# Altium footprint library QFP.PcbLib: 7 footprints
Each footprint in its own frame and in the unit in brackets; x right, y up, seen from the top. Pads: shape width x height; smd on the part's side, far side on the other; paste and mask are expansions set on the pad; w line width, h text height; cw(c..) or ccw(c..) is an arc to the next point about the centre after c.
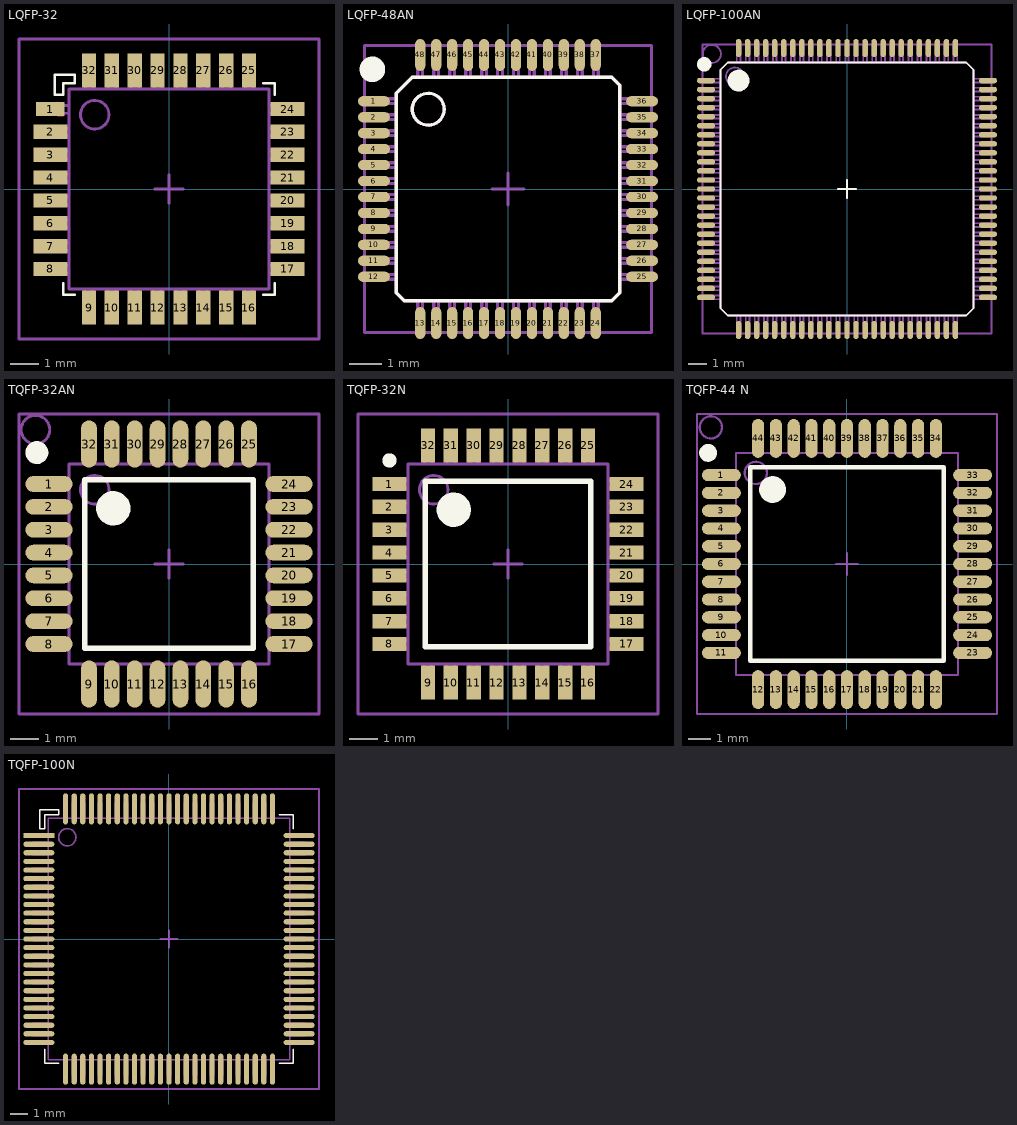
[diagram p0: the footprints below, top view; thin cyan lines are the x and y axes]

## LQFP-32 [mm] "LQFP, 32-Leads, Body 7,00x7,00mm, Pitch 0,80mm, IPC Medium Density"
height 1.6
pads (32):
  rect 1x0.5 smd: 1(-4.15,2.8)
  rect 1.2x0.5 smd: 2(-4.15,2) 3(-4.15,1.2) 4(-4.15,0.4) 5(-4.15,-0.4) 6(-4.15,-1.2) 7(-4.15,-2) 8(-4.15,-2.8) 17(4.15,-2.8) 18(4.15,-2) 19(4.15,-1.2) 20(4.15,-0.4) 21(4.15,0.4) 22(4.15,1.2) 23(4.15,2) 24(4.15,2.8)
  rect 0.5x1.2 smd: 9(-2.8,-4.15) 10(-2,-4.15) 11(-1.2,-4.15) 12(-0.4,-4.15) 13(0.4,-4.15) 14(1.2,-4.15) 15(2,-4.15) 16(2.8,-4.15) 25(2.8,4.15) 26(2,4.15) 27(1.2,4.15) 28(0.4,4.15) 29(-0.4,4.15) 30(-1.2,4.15) 31(-2,4.15) 32(-2.8,4.15)
Top Layer:
  region: -3.9,2.55 -3.7,2.55 -3.7,2.85 -3.9,3.05
Top Overlay:
  lines w0.1: -3.7,-3.3 -3.7,-3.7 -3.3,-3.7 ; 3.3,-3.7 3.7,-3.7 3.7,-3.3 ; 3.3,3.7 3.7,3.7 3.7,3.3 ; -4,3.3 -4,4 -3.3,4 -3.3,3.7 -3.7,3.7 -3.7,3.3 -4,3.3
Top Package:
  circle w0.1: c-2.6,2.6 r0.5
  lines w0.1: -3.55,-2.95 -4.3,-2.95 -4.3,-2.675 -3.55,-2.675 ; -3.55,-2.15 -4.3,-2.15 -4.3,-1.875 -3.55,-1.875 ; -3.55,-1.35 -4.3,-1.35 -4.3,-1.075 -3.55,-1.075 ; -3.55,-0.55 -4.3,-0.55 -4.3,-0.275 -3.55,-0.275 ; -3.55,0.25 -4.3,0.25 -4.3,0.525 -3.55,0.525 ; -3.55,1.05 -4.3,1.05 -4.3,1.325 -3.55,1.325 ; -3.55,1.85 -4.3,1.85 -4.3,2.125 -3.55,2.125 ; -3.55,2.65 -4.3,2.65 -4.3,2.925 -3.55,2.925 ; -2.95,-3.55 -2.95,-4.3 -2.675,-4.3 -2.675,-3.55 ; -2.925,3.55 -2.925,4.3 -2.65,4.3 -2.65,3.55 ; -2.15,-3.55 -2.15,-4.3 -1.875,-4.3 -1.875,-3.55 ; -2.125,3.55 -2.125,4.3 -1.85,4.3 -1.85,3.55 ; -1.35,-3.55 -1.35,-4.3 -1.075,-4.3 -1.075,-3.55 ; -1.325,3.55 -1.325,4.3 -1.05,4.3 -1.05,3.55 ; -0.55,-3.55 -0.55,-4.3 -0.275,-4.3 -0.275,-3.55 ; -0.525,3.55 -0.525,4.3 -0.25,4.3 -0.25,3.55 ; 0.25,-3.55 0.25,-4.3 0.525,-4.3 0.525,-3.55 ; 0.275,3.55 0.275,4.3 0.55,4.3 0.55,3.55 ; 1.05,-3.55 1.05,-4.3 1.325,-4.3 1.325,-3.55 ; 1.075,3.55 1.075,4.3 1.35,4.3 1.35,3.55 ; 1.85,-3.55 1.85,-4.3 2.125,-4.3 2.125,-3.55 ; 1.875,3.55 1.875,4.3 2.15,4.3 2.15,3.55 ; 2.65,-3.55 2.65,-4.3 2.925,-4.3 2.925,-3.55 ; 2.675,3.55 2.675,4.3 2.95,4.3 2.95,3.55 ; 3.55,-2.95 4.3,-2.95 4.3,-2.675 3.55,-2.675 ; 3.55,-2.15 4.3,-2.15 4.3,-1.875 3.55,-1.875 ; 3.55,-1.35 4.3,-1.35 4.3,-1.075 3.55,-1.075 ; 3.55,-0.55 4.3,-0.55 4.3,-0.275 3.55,-0.275 ; 3.55,0.25 4.3,0.25 4.3,0.525 3.55,0.525 ; 3.55,1.05 4.3,1.05 4.3,1.325 3.55,1.325 ; 3.55,1.85 4.3,1.85 4.3,2.125 3.55,2.125 ; 3.55,2.65 4.3,2.65 4.3,2.925 3.55,2.925 ; -3.5,-3.5 3.5,-3.5 3.5,3.5 -3.5,3.5 -3.5,-3.5
Top Border:
  lines w0.1: -0.5,0 0.5,0 ; 0,-0.5 0,0.5 ; -5.25,-5.25 -5.25,5.25 5.25,5.25 5.25,-5.25 -5.25,-5.25
3D body "LQFP-32.STEP": height 1.62, standoff -0.01, extent -4.572,-4.572 4.572,4.572

## LQFP-48AN [mm]
height 1.4
pads (48):
  oval 1x0.32 smd: 1(-4.2,2.75) 2(-4.2,2.25) 3(-4.2,1.75) 4(-4.2,1.25) 5(-4.2,0.75) 6(-4.2,0.25) 7(-4.2,-0.25) 8(-4.2,-0.75) 9(-4.2,-1.25) 10(-4.2,-1.75) 11(-4.2,-2.25) 12(-4.2,-2.75) 25(4.2,-2.75) 26(4.2,-2.25) 27(4.2,-1.75) 28(4.2,-1.25) 29(4.2,-0.75) 30(4.2,-0.25) 31(4.2,0.25) 32(4.2,0.75) 33(4.2,1.25) 34(4.2,1.75) 35(4.2,2.25) 36(4.2,2.75)
  oval 0.32x1 smd: 13(-2.75,-4.2) 14(-2.25,-4.2) 15(-1.75,-4.2) 16(-1.25,-4.2) 17(-0.75,-4.2) 18(-0.25,-4.2) 19(0.25,-4.2) 20(0.75,-4.2) 21(1.25,-4.2) 22(1.75,-4.2) 23(2.25,-4.2) 24(2.75,-4.2) 37(2.75,4.2) 38(2.25,4.2) 39(1.75,4.2) 40(1.25,4.2) 41(0.75,4.2) 42(0.25,4.2) 43(-0.25,4.2) 44(-0.75,4.2) 45(-1.25,4.2) 46(-1.75,4.2) 47(-2.25,4.2) 48(-2.75,4.2)
Top Overlay:
  circle w0.1: c-2.5,2.5 r0.5
  circle w0.4: c-4.25,3.75 r0.2
  lines w0.1: -3.5,-3.25 -3.25,-3.5 3.25,-3.5 3.5,-3.25 3.5,3.25 3.25,3.5 -3,3.5 -3.5,3 -3.5,-3.25
Top Package:
  drawing of 154 lines, arcs and shapes, not listed
Top Border:
  lines w0.1: -0.5,0 0.5,0 ; 0,-0.5 0,0.5 ; -4.5,-4.5 4.5,-4.5 4.5,4.5 -4.5,4.5 -4.5,-4.5
3D body "Ethernet Transceiver KSZ8051MLLI LQFP.step": height 1.55, standoff -0.02, extent -4.386,-4.386 4.386,4.386

## LQFP-100AN [mm]
height 1.27
pads (100):
  oval 1x0.3 smd: 1(-7.8,6) 2(-7.8,5.5) 3(-7.8,5) 4(-7.8,4.5) 5(-7.8,4) 6(-7.8,3.5) 7(-7.8,3) 8(-7.8,2.5) 9(-7.8,2) 10(-7.8,1.5) 11(-7.8,1) 12(-7.8,0.5) 13(-7.8,0) 14(-7.8,-0.5) 15(-7.8,-1) 16(-7.8,-1.5) 17(-7.8,-2) 18(-7.8,-2.5) 19(-7.8,-3) 20(-7.8,-3.5) 21(-7.8,-4) 22(-7.8,-4.5) 23(-7.8,-5) 24(-7.8,-5.5) 25(-7.8,-6) 51(7.8,-6) 52(7.8,-5.5) 53(7.8,-5) 54(7.8,-4.5) 55(7.8,-4) 56(7.8,-3.5) 57(7.8,-3) 58(7.8,-2.5) 59(7.8,-2) 60(7.8,-1.5) 61(7.8,-1) 62(7.8,-0.5) 63(7.8,0) 64(7.8,0.5) 65(7.8,1) 66(7.8,1.5) 67(7.8,2) 68(7.8,2.5) 69(7.8,3) 70(7.8,3.5) 71(7.8,4) 72(7.8,4.5) 73(7.8,5) 74(7.8,5.5) 75(7.8,6)
  oval 0.3x1 smd: 26(-6,-7.8) 27(-5.5,-7.8) 28(-5,-7.8) 29(-4.5,-7.8) 30(-4,-7.8) 31(-3.5,-7.8) 32(-3,-7.8) 33(-2.5,-7.8) 34(-2,-7.8) 35(-1.5,-7.8) 36(-1,-7.8) 37(-0.5,-7.8) 38(0,-7.8) 39(0.5,-7.8) 40(1,-7.8) 41(1.5,-7.8) 42(2,-7.8) 43(2.5,-7.8) 44(3,-7.8) 45(3.5,-7.8) 46(4,-7.8) 47(4.5,-7.8) 48(5,-7.8) 49(5.5,-7.8) 50(6,-7.8) 76(6,7.8) 77(5.5,7.8) 78(5,7.8) 79(4.5,7.8) 80(4,7.8) 81(3.5,7.8) 82(3,7.8) 83(2.5,7.8) 84(2,7.8) 85(1.5,7.8) 86(1,7.8) 87(0.5,7.8) 88(0,7.8) 89(-0.5,7.8) 90(-1,7.8) 91(-1.5,7.8) 92(-2,7.8) 93(-2.5,7.8) 94(-3,7.8) 95(-3.5,7.8) 96(-4,7.8) 97(-4.5,7.8) 98(-5,7.8) 99(-5.5,7.8) 100(-6,7.8)
Top Overlay:
  circle w0.6: c-6,6 r0.3
  circle w0.4: c-7.9,6.9 r0.2
  lines w0.1: -0.5,0 0.5,0 ; 0,-0.5 0,0.5 ; -7,-6.6 -7,6.6 -6.6,7 6.6,7 7,6.6 7,-6.6 6.6,-7 -6.6,-7 -7,-6.6
Top Package:
  drawing of 309 lines, arcs and shapes, not listed
Top Border:
  circle w0.1: c-7.475,7.475 r0.5
  lines w0.1: -0.5,0 0.5,0 ; 0,-0.5 0,0.5 ; -8,-8 8,-8 8,8 -8,8 -8,-8
3D body "User Library-lqfp100-1.step": height 1.5, standoff 0.02, extent -8,-8 8,8

## TQFP-32AN [mm] "Thin QFP, 32-Leads, Body 7x7mm, Pitch 0.8mm, IPC Medium Density"
height 1.2
pads (32):
  oval 1.65x0.55 smd: 1(-4.2,2.8) 2(-4.2,2) 3(-4.2,1.2) 4(-4.2,0.4) 5(-4.2,-0.4) 6(-4.2,-1.2) 7(-4.2,-2) 8(-4.2,-2.8) 17(4.2,-2.8) 18(4.2,-2) 19(4.2,-1.2) 20(4.2,-0.4) 21(4.2,0.4) 22(4.2,1.2) 23(4.2,2) 24(4.2,2.8)
  oval 0.55x1.65 smd: 9(-2.8,-4.2) 10(-2,-4.2) 11(-1.2,-4.2) 12(-0.4,-4.2) 13(0.4,-4.2) 14(1.2,-4.2) 15(2,-4.2) 16(2.8,-4.2) 25(2.8,4.2) 26(2,4.2) 27(1.2,4.2) 28(0.4,4.2) 29(-0.4,4.2) 30(-1.2,4.2) 31(-2,4.2) 32(-2.8,4.2)
Top Overlay:
  circle w0.6: c-1.95,1.95 r0.3
  circle w0.4: c-4.625,3.9 r0.2
  lines w0.2: -2.95,-2.95 -2.95,2.95 2.95,2.95 2.95,-2.95 -2.95,-2.95
Top Package:
  circle w0.1: c-2.6,2.6 r0.5
  lines w0.1: -3.5,-3.5 3.5,-3.5 3.5,3.5 -3.5,3.5 -3.5,-3.5
Top Border:
  circle w0.1: c-4.675,4.7 r0.5
  lines w0.1: -0.5,0 0.5,0 ; 0,-0.5 0,0.5 ; -5.25,-5.25 5.25,-5.25 5.25,5.25 -5.25,5.25 -5.25,-5.25
3D body "MCU ATmega16M1.STEP": height 1.45, standoff -0.01, extent -4.5,-4.5 4.5,4.5

## TQFP-32N [mm] "TQFP, 32-Leads, Body 7,00x7,00mm, Pitch 0,80mm, IPC Medium Density"
height 1.6
pads (32):
  rect 1.2x0.5 smd: 1(-4.15,2.8) 2(-4.15,2) 3(-4.15,1.2) 4(-4.15,0.4) 5(-4.15,-0.4) 6(-4.15,-1.2) 7(-4.15,-2) 8(-4.15,-2.8) 17(4.15,-2.8) 18(4.15,-2) 19(4.15,-1.2) 20(4.15,-0.4) 21(4.15,0.4) 22(4.15,1.2) 23(4.15,2) 24(4.15,2.8)
  rect 0.5x1.2 smd: 9(-2.8,-4.15) 10(-2,-4.15) 11(-1.2,-4.15) 12(-0.4,-4.15) 13(0.4,-4.15) 14(1.2,-4.15) 15(2,-4.15) 16(2.8,-4.15) 25(2.8,4.15) 26(2,4.15) 27(1.2,4.15) 28(0.4,4.15) 29(-0.4,4.15) 30(-1.2,4.15) 31(-2,4.15) 32(-2.8,4.15)
Top Overlay:
  circle w0.6: c-1.9,1.9 r0.3
  circle w0.25: c-4.15,3.625 r0.125
  lines w0.2: -2.9,-2.9 2.9,-2.9 2.9,2.9 -2.9,2.9 -2.9,-2.9
Top Package:
  circle w0.1: c-2.6,2.6 r0.5
  lines w0.1: -3.55,-2.95 -4.3,-2.95 -4.3,-2.675 -3.55,-2.675 ; -3.55,-2.15 -4.3,-2.15 -4.3,-1.875 -3.55,-1.875 ; -3.55,-1.35 -4.3,-1.35 -4.3,-1.075 -3.55,-1.075 ; -3.55,-0.55 -4.3,-0.55 -4.3,-0.275 -3.55,-0.275 ; -3.55,0.25 -4.3,0.25 -4.3,0.525 -3.55,0.525 ; -3.55,1.05 -4.3,1.05 -4.3,1.325 -3.55,1.325 ; -3.55,1.85 -4.3,1.85 -4.3,2.125 -3.55,2.125 ; -3.55,2.65 -4.3,2.65 -4.3,2.925 -3.55,2.925 ; -2.95,-3.55 -2.95,-4.3 -2.675,-4.3 -2.675,-3.55 ; -2.925,3.55 -2.925,4.3 -2.65,4.3 -2.65,3.55 ; -2.15,-3.55 -2.15,-4.3 -1.875,-4.3 -1.875,-3.55 ; -2.125,3.55 -2.125,4.3 -1.85,4.3 -1.85,3.55 ; -1.35,-3.55 -1.35,-4.3 -1.075,-4.3 -1.075,-3.55 ; -1.325,3.55 -1.325,4.3 -1.05,4.3 -1.05,3.55 ; -0.55,-3.55 -0.55,-4.3 -0.275,-4.3 -0.275,-3.55 ; -0.525,3.55 -0.525,4.3 -0.25,4.3 -0.25,3.55 ; 0.25,-3.55 0.25,-4.3 0.525,-4.3 0.525,-3.55 ; 0.275,3.55 0.275,4.3 0.55,4.3 0.55,3.55 ; 1.05,-3.55 1.05,-4.3 1.325,-4.3 1.325,-3.55 ; 1.075,3.55 1.075,4.3 1.35,4.3 1.35,3.55 ; 1.85,-3.55 1.85,-4.3 2.125,-4.3 2.125,-3.55 ; 1.875,3.55 1.875,4.3 2.15,4.3 2.15,3.55 ; 2.65,-3.55 2.65,-4.3 2.925,-4.3 2.925,-3.55 ; 2.675,3.55 2.675,4.3 2.95,4.3 2.95,3.55 ; 3.55,-2.95 4.3,-2.95 4.3,-2.675 3.55,-2.675 ; 3.55,-2.15 4.3,-2.15 4.3,-1.875 3.55,-1.875 ; 3.55,-1.35 4.3,-1.35 4.3,-1.075 3.55,-1.075 ; 3.55,-0.55 4.3,-0.55 4.3,-0.275 3.55,-0.275 ; 3.55,0.25 4.3,0.25 4.3,0.525 3.55,0.525 ; 3.55,1.05 4.3,1.05 4.3,1.325 3.55,1.325 ; 3.55,1.85 4.3,1.85 4.3,2.125 3.55,2.125 ; 3.55,2.65 4.3,2.65 4.3,2.925 3.55,2.925 ; -3.5,-3.5 -3.5,3.5 3.5,3.5 3.5,-3.5 -3.5,-3.5
Top Border:
  lines w0.1: -0.5,0 0.5,0 ; 0,-0.5 0,0.5 ; -5.25,-5.25 -5.25,5.25 5.25,5.25 5.25,-5.25 -5.25,-5.25
3D body "LQFP-32.STEP": height 1.62, standoff -0.01, extent -4.572,-4.572 4.572,4.572

## TQFP-44 N [mm]
height 1.27
pads (44):
  oval 1.75x0.55 smd: 1(-5.65,4) 2(-5.65,3.2) 3(-5.65,2.4) 4(-5.65,1.6) 5(-5.65,0.8) 6(-5.65,0) 7(-5.65,-0.8) 8(-5.65,-1.6) 9(-5.65,-2.4) 10(-5.65,-3.2) 11(-5.65,-4) 23(5.65,-4) 24(5.65,-3.2) 25(5.65,-2.4) 26(5.65,-1.6) 27(5.65,-0.8) 28(5.65,0) 29(5.65,0.8) 30(5.65,1.6) 31(5.65,2.4) 32(5.65,3.2) 33(5.65,4)
  oval 0.55x1.75 smd: 12(-4,-5.65) 13(-3.2,-5.65) 14(-2.4,-5.65) 15(-1.6,-5.65) 16(-0.8,-5.65) 17(0,-5.65) 18(0.8,-5.65) 19(1.6,-5.65) 20(2.4,-5.65) 21(3.2,-5.65) 22(4,-5.65) 34(4,5.65) 35(3.2,5.65) 36(2.4,5.65) 37(1.6,5.65) 38(0.8,5.65) 39(0,5.65) 40(-0.8,5.65) 41(-1.6,5.65) 42(-2.4,5.65) 43(-3.2,5.65) 44(-4,5.65)
Top Overlay:
  circle w0.6: c-3.35,3.35 r0.3
  circle w0.4: c-6.25,5 r0.2
  lines w0.2: -4.35,-4.35 4.35,-4.35 4.35,4.35 -4.35,4.35 -4.35,-4.35
Top Package:
  circle w0.1: c-4.1,4.1 r0.5
  lines w0.1: -5,-5 -5,5 5,5 5,-5 -5,-5
Top Border:
  circle w0.1: c-6.125,6.15 r0.5
  lines w0.1: -0.5,0 0.5,0 ; 0,-0.5 0,0.5 ; -6.75,-6.75 -6.75,6.75 6.75,6.75 6.75,-6.75 -6.75,-6.75
3D body "User Library-TQFP-44.STEP": height 1.06, standoff 0, extent -6,-6 6,6

## TQFP-100N [mm] "QFP-100 (14x14)"
height 1.2
pads (100):
  rect 1.8x0.3 smd: 1(-7.55,6)
  oval 1.8x0.3 smd: 2(-7.55,5.5) 3(-7.55,5) 4(-7.55,4.5) 5(-7.55,4) 6(-7.55,3.5) 7(-7.55,3) 8(-7.55,2.5) 9(-7.55,2) 10(-7.55,1.5) 11(-7.55,1) 12(-7.55,0.5) 13(-7.55,0) 14(-7.55,-0.5) 15(-7.55,-1) 16(-7.55,-1.5) 17(-7.55,-2) 18(-7.55,-2.5) 19(-7.55,-3) 20(-7.55,-3.5) 21(-7.55,-4) 22(-7.55,-4.5) 23(-7.55,-5) 24(-7.55,-5.5) 25(-7.55,-6) 51(7.55,-6) 52(7.55,-5.5) 53(7.55,-5) 54(7.55,-4.5) 55(7.55,-4) 56(7.55,-3.5) 57(7.55,-3) 58(7.55,-2.5) 59(7.55,-2) 60(7.55,-1.5) 61(7.55,-1) 62(7.55,-0.5) 63(7.55,0) 64(7.55,0.5) 65(7.55,1) 66(7.55,1.5) 67(7.55,2) 68(7.55,2.5) 69(7.55,3) 70(7.55,3.5) 71(7.55,4) 72(7.55,4.5) 73(7.55,5) 74(7.55,5.5) 75(7.55,6)
  oval 0.3x1.8 smd: 26(-6,-7.55) 27(-5.5,-7.55) 28(-5,-7.55) 29(-4.5,-7.55) 30(-4,-7.55) 31(-3.5,-7.55) 32(-3,-7.55) 33(-2.5,-7.55) 34(-2,-7.55) 35(-1.5,-7.55) 36(-1,-7.55) 37(-0.5,-7.55) 38(0,-7.55) 39(0.5,-7.55) 40(1,-7.55) 41(1.5,-7.55) 42(2,-7.55) 43(2.5,-7.55) 44(3,-7.55) 45(3.5,-7.55) 46(4,-7.55) 47(4.5,-7.55) 48(5,-7.55) 49(5.5,-7.55) 50(6,-7.55) 76(6,7.55) 77(5.5,7.55) 78(5,7.55) 79(4.5,7.55) 80(4,7.55) 81(3.5,7.55) 82(3,7.55) 83(2.5,7.55) 84(2,7.55) 85(1.5,7.55) 86(1,7.55) 87(0.5,7.55) 88(0,7.55) 89(-0.5,7.55) 90(-1,7.55) 91(-1.5,7.55) 92(-2,7.55) 93(-2.5,7.55) 94(-3,7.55) 95(-3.5,7.55) 96(-4,7.55) 97(-4.5,7.55) 98(-5,7.55) 99(-5.5,7.55) 100(-6,7.55)
Top Overlay:
  lines w0.1: -7.2,-6.4 -7.2,-7.2 -6.4,-7.2 ; 6.4,-7.2 7.2,-7.2 7.2,-6.4 ; 6.4,7.2 7.2,7.2 7.2,6.4 ; -7.5,6.4 -7.2,6.4 -7.2,7.2 -6.4,7.2 -6.4,7.5 -7.5,7.5 -7.5,6.4
Top Package:
  drawing of 305 lines, arcs and shapes, not listed
Top Comment:
  text ".Comment" at -5.5,-5 h3
Top Designator:
  text ".Designator" at -3,2.5 h4
Top Border:
  lines w0.1: -0.5,0 0.5,0 ; 0,-0.5 0,0.5 ; -8.7,-8.7 8.7,-8.7 8.7,8.7 -8.7,8.7 -8.7,-8.7
3D body "TQFP-100A.step": height 1.1, standoff 0, extent -8,-8 8,8